# EAGLE library part WLG-M2088A/8EG (library led-matrix-v3)
LED Matrix - Dual Color (Red + Green) - Medium sku: COM-00682 0.33 x 2 x 2"
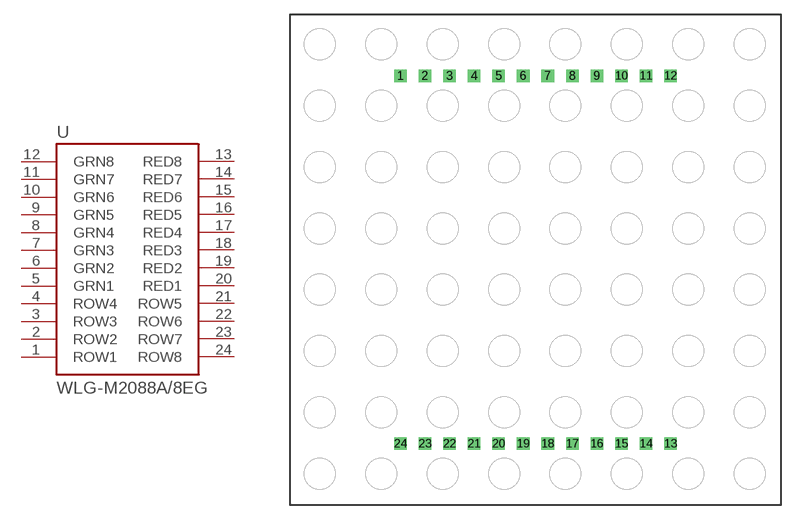
[diagram p1: symbol with the pads of WLG-M2088A/8EG; footprint WLG-M2088A/8EG]

Designator prefix -

## WLG-M2088A/8EG  [WLG-M2088A/8EG]
1  ROW1
2  ROW2
3  ROW3
4  ROW4
5  GRN1
6  GRN2
7  GRN3
8  GRN4
9  GRN5
10  GRN6
11  GRN7
12  GRN8
13  RED8
14  RED7
15  RED6
16  RED5
17  RED4
18  RED3
19  RED2
20  RED1
21  ROW5
22  ROW6
23  ROW7
24  ROW8

## Footprint WLG-M2088A/8EG (pad centres in mm)
drill 0.8 square: 1 -13.97,19.05; 2 -11.43,19.05; 3 -8.89,19.05; 4 -6.35,19.05; 5 -3.81,19.05; 6 -1.27,19.05; 7 1.27,19.05; 8 3.81,19.05; 9 6.35,19.05; 10 8.89,19.05; 11 11.43,19.05; 12 13.97,19.05; 13 13.97,-19.05; 14 11.43,-19.05; 15 8.89,-19.05; 16 6.35,-19.05; 17 3.81,-19.05; 18 1.27,-19.05; 19 -1.27,-19.05; 20 -3.81,-19.05; 21 -6.35,-19.05; 22 -8.89,-19.05; 23 -11.43,-19.05; 24 -13.97,-19.05